# Altium footprint library 43645-0400.PcbLib: 1 footprints
Each footprint in its own frame and in the unit in brackets; x right, y up, seen from the top. Pads: shape width x height; smd on the part's side, far side on the other; paste and mask are expansions set on the pad; w line width, h text height; cw(c..) or ccw(c..) is an arc to the next point about the centre after c.

## 43645-0400 [mm] "Molex Micro-Fit 3.0 1x4"
3D body "436450400.stp": height 8.56, standoff 1.35, extent -5.619,-7.53 8.381,5.32